# Altium schematic symbol library R3.SchLib: 2 symbols
Pins are listed as number, name and electrical type; pins without a type are passive.

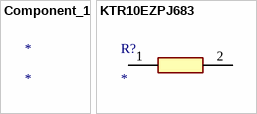
[diagram p0: symbols Component_1 to KTR10EZPJ683]

## Component_1
designator *

## KTR10EZPJ683
designator R?
Resistor; Manufacturer_Name: ROHM Semiconductor; Manufacturer_Part_Number: KTR10EZPJ683; Datasheet Link: https://datasheet.datasheetarchive.com/originals/distributors/DKDS-18/356469.pdf; Height: 0.65mm
footprint FP-CR0805-IPC_A
pins: 1, 2